# Altium footprint library Diode_Diodes_DFLS1100-7_eec_0.PcbLib: 1 footprints
Each footprint in its own frame and in the unit in brackets; x right, y up, seen from the top. Pads: shape width x height; smd on the part's side, far side on the other; paste and mask are expansions set on the pad; w line width, h text height; cw(c..) or ccw(c..) is an arc to the next point about the centre after c.
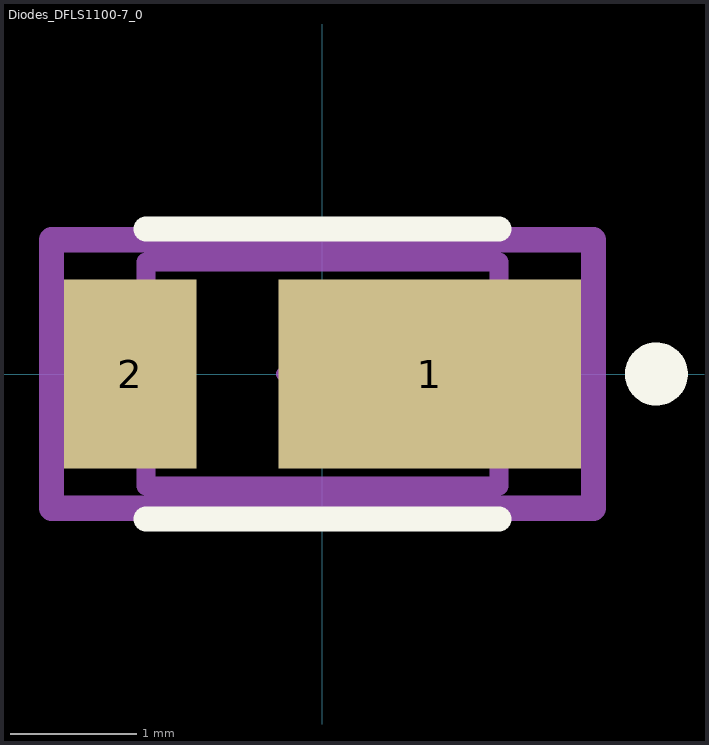
[diagram p0: the footprint, top view; thin cyan lines are the x and y axes]

## Diodes_DFLS1100-7_0 [mm]
pads (2):
  rect 2.4x1.5 smd paste+0 mask+0: 1(0.85,0)
  rect 1.05x1.5 smd paste+0 mask+0: 2(-1.525,0)
Top Overlay:
  circle w0.25: c2.65,0 r0.125
  lines w0.2: -1.4,-1.15 1.4,-1.15 ; -1.4,1.15 1.4,1.15
Mechanical 10:
  lines w0.2: -2.15,-1.065 2.15,-1.065 2.15,1.065 -2.15,1.065 -2.15,-1.065
  text ".Designator" at 0,0 h1
Mechanical 12:
  lines w0.15: -1.4,-0.89 1.4,-0.89 1.4,0.89 -1.4,0.89 -1.4,-0.89
Mechanical 15:
  lines w0.1: -0.319,0 0.319,0 ; 0,-0.319 0,0.319
  lines w0.2: -2.15,-1.065 2.15,-1.065 2.15,1.065 -2.15,1.065 -2.15,-1.065
3D body "3dmodel.step": height 0.25, standoff 0, extent -2.15,-1.065 2.15,1.065